# Altium footprint library C0201(0603)x0.3.PcbLib: 1 footprints
Each footprint in its own frame and in the unit in brackets; x right, y up, seen from the top. Pads: shape width x height; smd on the part's side, far side on the other; paste and mask are expansions set on the pad; w line width, h text height; cw(c..) or ccw(c..) is an arc to the next point about the centre after c.
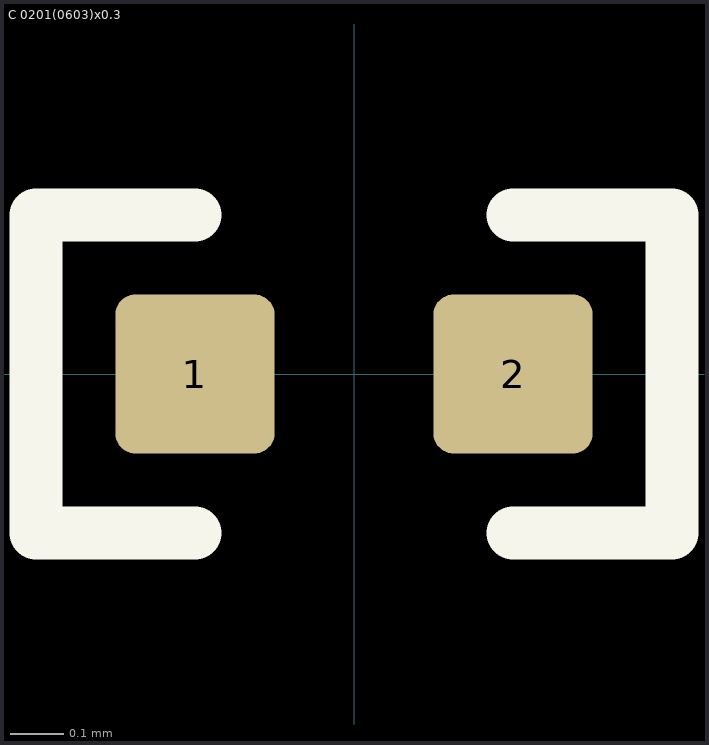
[diagram p0: the footprint, top view; thin cyan lines are the x and y axes]

## C 0201(0603)x0.3 [mm]
height 0.3
pads (2):
  rrect25% 0.3x0.3 smd paste-0.1 mask+0.102: 1(-0.3,0) 2(0.3,0)
Top Overlay:
  lines w0.1: -0.3,-0.3 -0.6,-0.3 -0.6,0.3 -0.3,0.3 ; 0.3,-0.3 0.6,-0.3 0.6,0.3 0.3,0.3
Top Paste:
  region: -0.285,0.135 -0.315,0.135 -0.339,0.135 -0.383,0.117 -0.417,0.083 -0.435,0.039 -0.435,0.015 -0.435,-0.015 -0.435,-0.039 -0.417,-0.083 -0.383,-0.117 -0.339,-0.135 -0.315,-0.135 -0.285,-0.135 -0.261,-0.135 -0.217,-0.117 -0.183,-0.083 -0.165,-0.039 -0.165,-0.015 -0.165,0.015 -0.165,0.039 -0.183,0.083 -0.217,0.117 -0.261,0.135
  region: 0.285,0.135 0.315,0.135 0.339,0.135 0.383,0.117 0.417,0.083 0.435,0.039 0.435,0.015 0.435,-0.015 0.435,-0.039 0.417,-0.083 0.383,-0.117 0.339,-0.135 0.315,-0.135 0.285,-0.135 0.261,-0.135 0.217,-0.117 0.183,-0.083 0.165,-0.039 0.165,-0.015 0.165,0.015 0.165,0.039 0.183,0.083 0.217,0.117 0.261,0.135
Top Solder:
  region: -0.425,0.25 0.425,0.25 0.45,0.25 0.496,0.231 0.531,0.196 0.55,0.15 0.55,0.125 0.55,-0.125 0.55,-0.15 0.531,-0.196 0.496,-0.231 0.45,-0.25 0.425,-0.25 -0.425,-0.25 -0.45,-0.25 -0.496,-0.231 -0.531,-0.196 -0.55,-0.15 -0.55,-0.125 -0.55,0.125 -0.55,0.15 -0.531,0.196 -0.496,0.231 -0.45,0.25
3D body "Cap 0201(0603)x30N.STEP": height 0.34, standoff 0, extent -0.3,-0.15 0.3,0.15